# Altium integrated library LS_R976.IntLib: 1 symbol
Pins are listed as number, name and electrical type; pins without a type are passive.

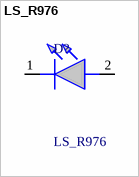
[diagram p0: symbol LS_R976]

## LS_R976
designator D?
Red 0805 CHIPLED LS R976N-R102 Osram Opto LS R976, CHIPLED 0805 Series Red LED, 633 nm, 2012 (0805), Rectangle Lens SMD Package; Manufacturer_Name: ams OSRAM; Manufacturer_Part_Number: LS R976; Geometry.Height: 0.4mm; Mouser Part Number: 720-LSR976D5178; Mouser Price/Stock: https://www.mouser.co.uk/ProductDetail/OSRAM-Opto-Semiconductors/LS-R976?qs=OIr7YF%252B2cWVTfzKl425Fkw%3D%3D; Arrow Part Number: LS R976; Arrow Price/Stock: https://www.arrow.com/en/products/lsr976/osram-opto-semiconductors?region=europe; Datasheet Link: http://uk.rs-online.com/web/p/products/4974804
footprint LEDC2012X40N
pins: 1 K, 2 A